# Altium schematic symbol library ISSI SRAM ASynchronous SRAM High Speed Low Power.SchLib: 413 symbols (part 18 of 21)
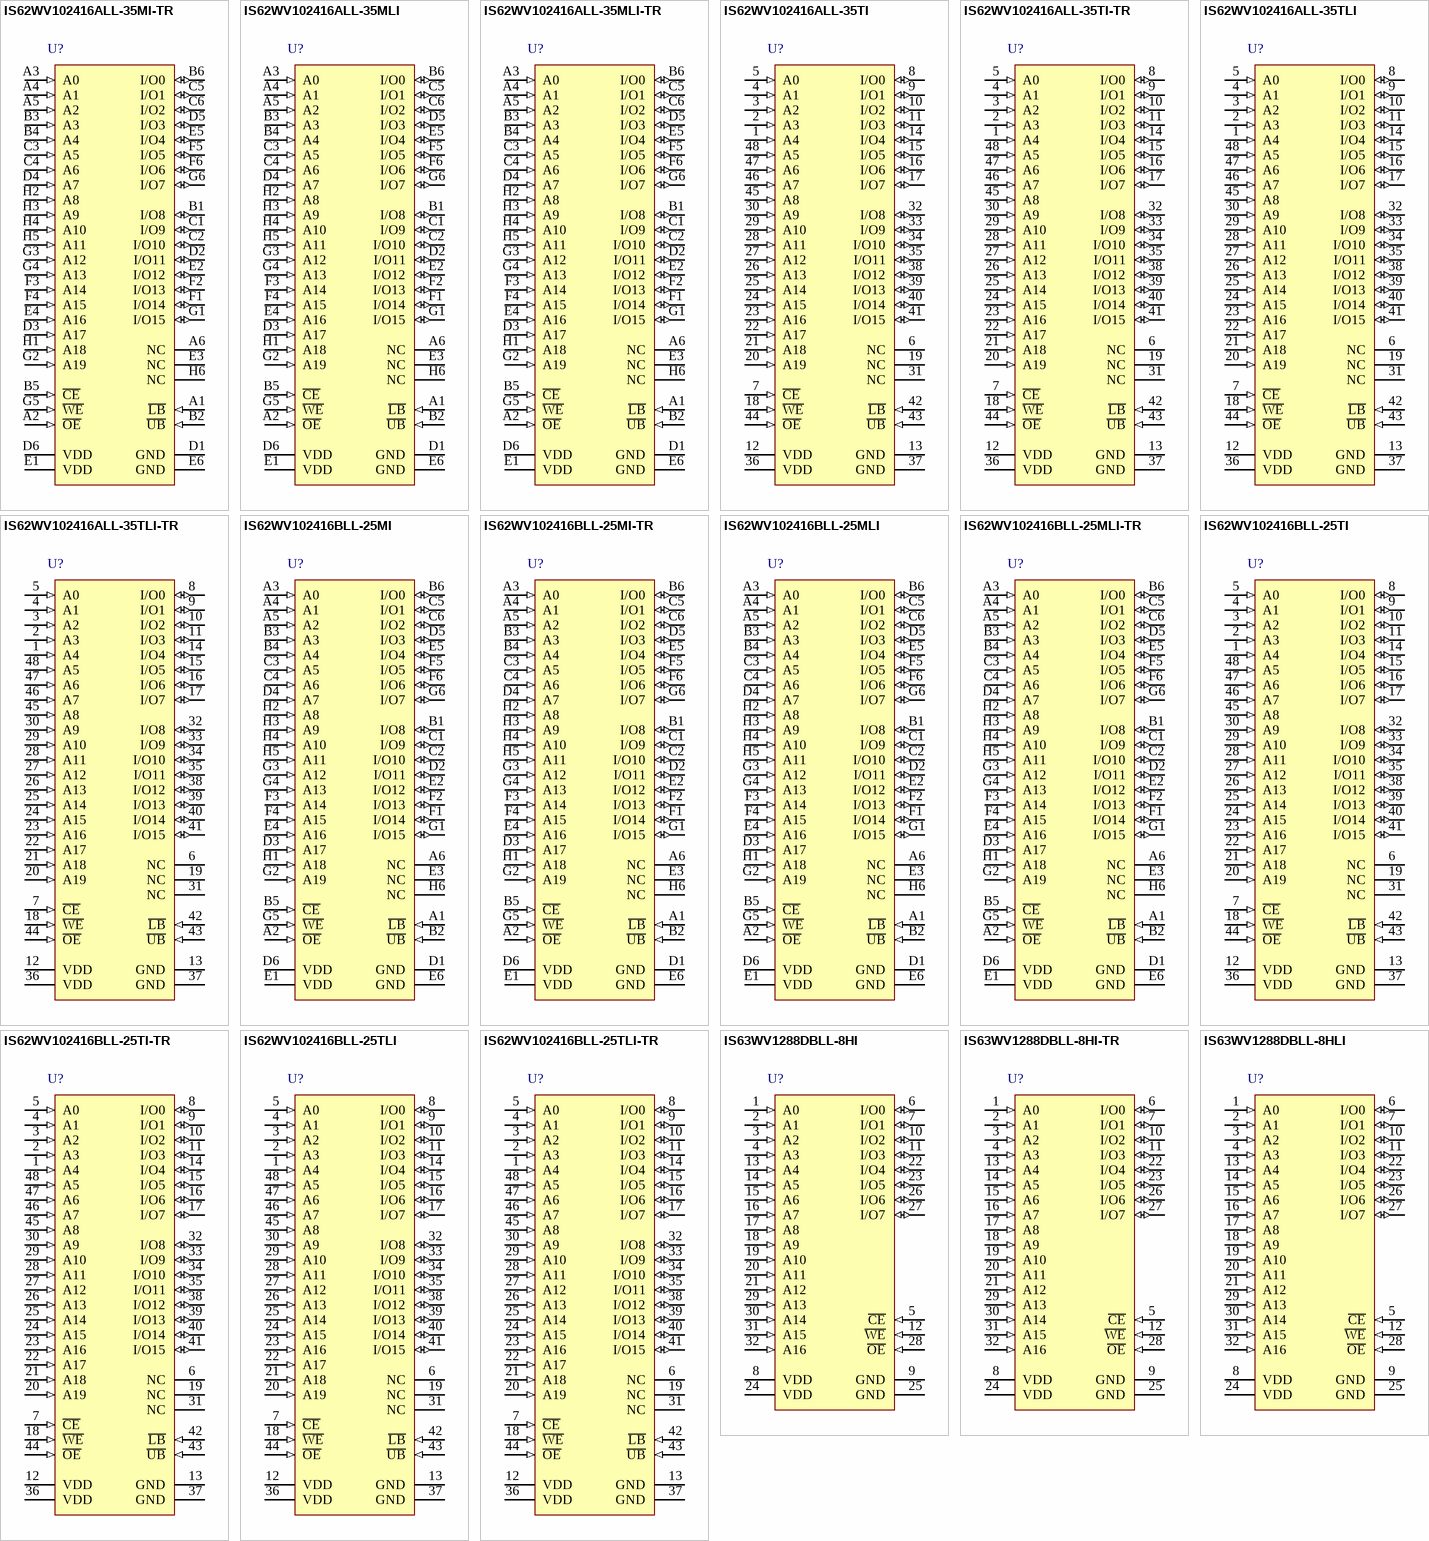
[diagram p45: symbols IS62WV102416ALL-35MI-TR to IS63WV1288DBLL-8HLI]

## IS63WV1288DBLL-8HLI
designator U?
1 M High Speed CMOS SRAM, 128 K x 8, -40 to 85 degC, 32-Pin SOP (TSOP-1-32), Pb-Free; Manufacturer: Integrated Silicon Solution Inc (ISSI); PartNumber: IS63WV1288DBLL-8HLI; Organization: 128K x 8; Packing: Tray / Tube; Speed (ns): 8; DatasheetVersion: Rev. B; PackageVersion: Rev. B, 04/2003; PackageReference: TSOP-1-32; PackageDescription: 32-Pin 8.00 x 13.4 mm TSOP-1, Pitch 0.5 mm; RoHS: Pb-Free; Mounting Technology: Surface Mount; ComponentLink1Description: Manufacturer URL; ComponentLink1URL: http://www.issi.com/US/index.shtml; ComponentLink2Description: Datasheet; ComponentLink2URL: http://www.issi.com/WW/pdf/63-64WV1288DALL-DBLL.pdf; ComponentLink3Description: Package Specification; ComponentLink3URL: http://www.issi.com/WW/pdf/61-64C1024AL.pdf
footprint ISSI-TSOP-1-32-8000x13400DE_N (SOP, 32-Leads, Body 11.9x8.1mm, Pitch 0.5mm, IPC Medium Density)
pins: 1 A0 (in) "Address Input", 2 A1 (in) "Address Input", 3 A2 (in) "Address Input", 4 A3 (in) "Address Input", 5 ~{CE} (in) "Chip Enable Input", 6 I/O0 (io) "Bidirectional Port", 7 I/O1 (io) "Bidirectional Port", 8 VDD (power) "Power", 9 GND (power) "Ground", 10 I/O2 (io) "Bidirectional Port", 11 I/O3 (io) "Bidirectional Port", 12 ~{WE} (in) "Write Enable Input", 13 A4 (in) "Address Input", 14 A5 (in) "Address Input", 15 A6 (in) "Address Input", 16 A7 (in) "Address Input", 17 A8 (in) "Address Input", 18 A9 (in) "Address Input", 19 A10 (in) "Address Input", 20 A11 (in) "Address Input", 21 A12 (in) "Address Input", 22 I/O4 (io) "Bidirectional Port", 23 I/O5 (io) "Bidirectional Port", 24 VDD (power) "Power", 25 GND (power) "Ground", 26 I/O6 (io) "Bidirectional Port", 27 I/O7 (io) "Bidirectional Port", 28 ~{OE} (in) "Output Enable Input", 29 A13 (in) "Address Input", 30 A14 (in) "Address Input", 31 A15 (in) "Address Input", 32 A16 (in) "Address Input"

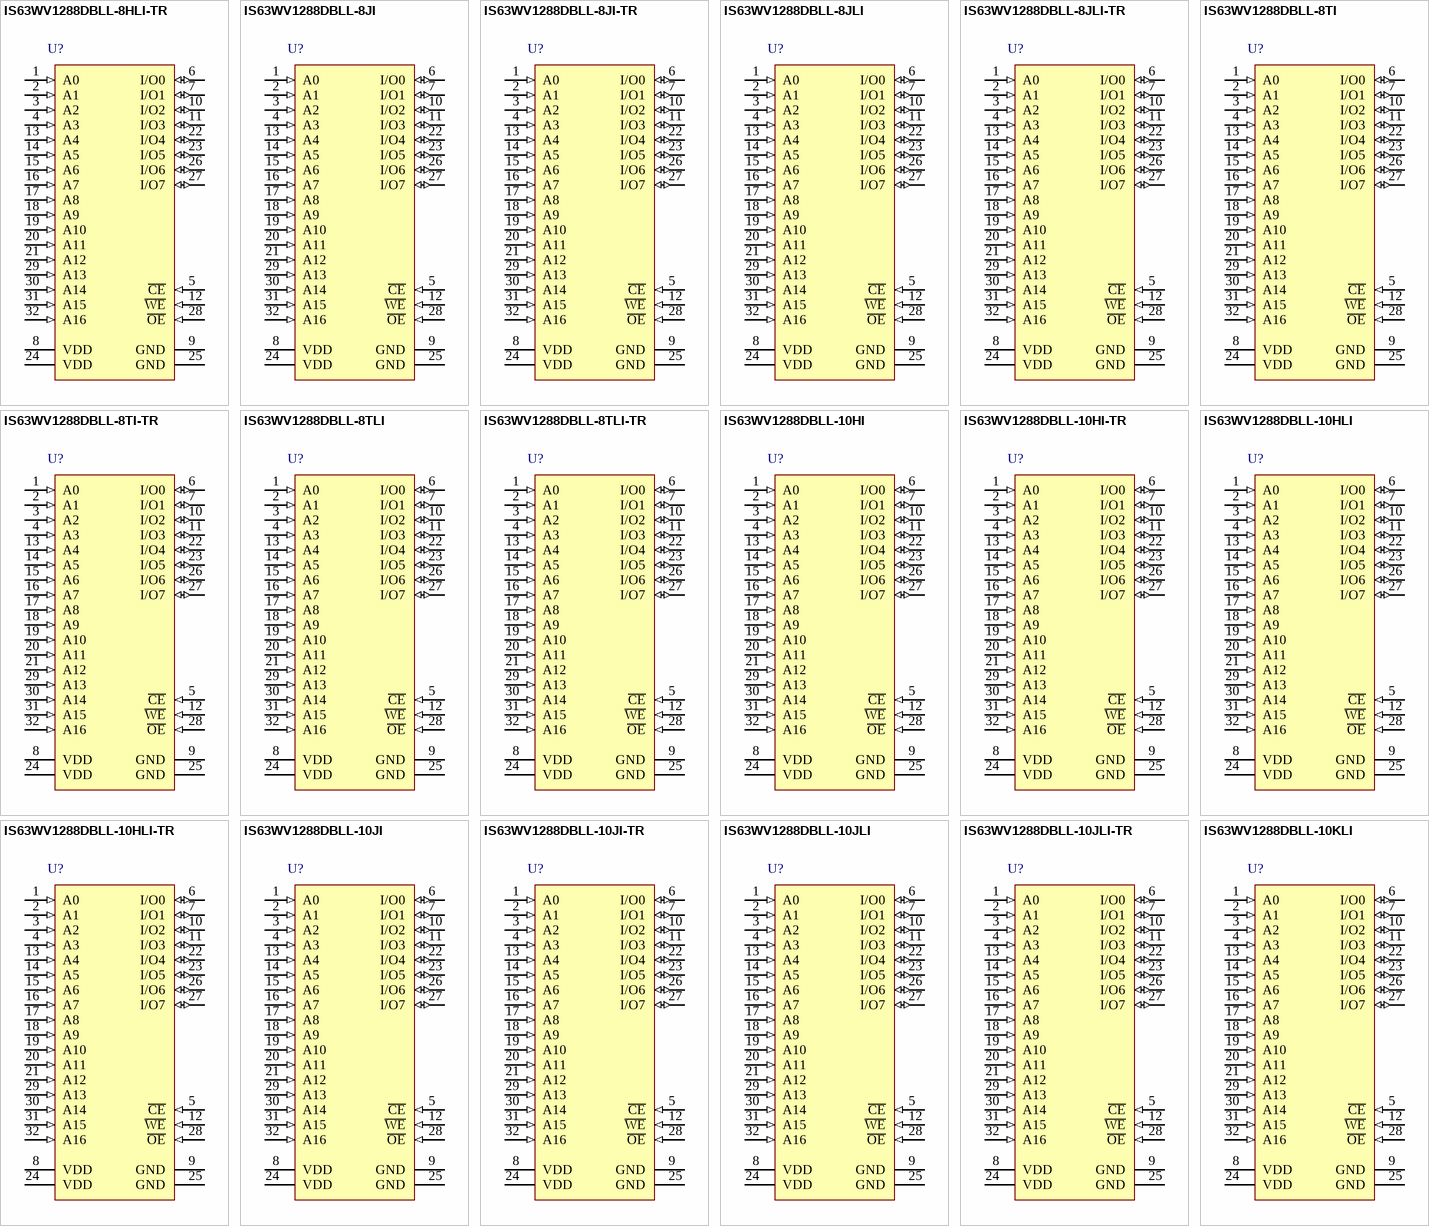
[diagram p24: symbols IS63WV1288DBLL-8HLI-TR to IS63WV1288DBLL-10KLI]

## IS63WV1288DBLL-8HLI-TR
designator U?
1 M High Speed CMOS SRAM, 128 K x 8, -40 to 85 degC, 32-Pin SOP (TSOP-1-32), Pb-Free; Manufacturer: Integrated Silicon Solution Inc (ISSI); PartNumber: IS63WV1288DBLL-8HLI-TR; Organization: 128K x 8; Packing: Tape & Reel; Speed (ns): 8; DatasheetVersion: Rev. B; PackageVersion: Rev. B, 04/2003; PackageReference: TSOP-1-32; PackageDescription: 32-Pin 8.00 x 13.4 mm TSOP-1, Pitch 0.5 mm; RoHS: Pb-Free; Mounting Technology: Surface Mount; ComponentLink1Description: Manufacturer URL; ComponentLink1URL: http://www.issi.com/US/index.shtml; ComponentLink2Description: Datasheet; ComponentLink2URL: http://www.issi.com/WW/pdf/63-64WV1288DALL-DBLL.pdf; ComponentLink3Description: Package Specification; ComponentLink3URL: http://www.issi.com/WW/pdf/61-64C1024AL.pdf
footprint ISSI-TSOP-1-32-8000x13400DE_N (SOP, 32-Leads, Body 11.9x8.1mm, Pitch 0.5mm, IPC Medium Density)
pins: 1 A0 (in) "Address Input", 2 A1 (in) "Address Input", 3 A2 (in) "Address Input", 4 A3 (in) "Address Input", 5 ~{CE} (in) "Chip Enable Input", 6 I/O0 (io) "Bidirectional Port", 7 I/O1 (io) "Bidirectional Port", 8 VDD (power) "Power", 9 GND (power) "Ground", 10 I/O2 (io) "Bidirectional Port", 11 I/O3 (io) "Bidirectional Port", 12 ~{WE} (in) "Write Enable Input", 13 A4 (in) "Address Input", 14 A5 (in) "Address Input", 15 A6 (in) "Address Input", 16 A7 (in) "Address Input", 17 A8 (in) "Address Input", 18 A9 (in) "Address Input", 19 A10 (in) "Address Input", 20 A11 (in) "Address Input", 21 A12 (in) "Address Input", 22 I/O4 (io) "Bidirectional Port", 23 I/O5 (io) "Bidirectional Port", 24 VDD (power) "Power", 25 GND (power) "Ground", 26 I/O6 (io) "Bidirectional Port", 27 I/O7 (io) "Bidirectional Port", 28 ~{OE} (in) "Output Enable Input", 29 A13 (in) "Address Input", 30 A14 (in) "Address Input", 31 A15 (in) "Address Input", 32 A16 (in) "Address Input"

## IS63WV1288DBLL-8JI
designator U?
1 M High Speed CMOS SRAM, 128 K x 8, -40 to 85 degC, 32-Pin SOJ (SOJ-32); Manufacturer: Integrated Silicon Solution Inc (ISSI); PartNumber: IS63WV1288DBLL-8JI; Organization: 128K x 8; Packing: Tray / Tube; Speed (ns): 8; DatasheetVersion: Rev. B; PackageVersion: Rev. C, 08/2009; PackageReference: SOJ-32; PackageDescription: 32-Pin 300 mil SOJ, Body 20.96 x 7.62 mm, Pitch 1.27 mm; Mounting Technology: Surface Mount; ComponentLink1Description: Manufacturer URL; ComponentLink1URL: http://www.issi.com/US/index.shtml; ComponentLink2Description: Datasheet; ComponentLink2URL: http://www.issi.com/WW/pdf/63-64WV1288DALL-DBLL.pdf; ComponentLink3Description: Package Specification; ComponentLink3URL: http://www.issi.com/WW/pdf/61-64C1024AL.pdf
footprint ISSI-SOJ-32_A_N (SOJ, 32-Leads, Body 21.09x7.75mm, Pitch 1.27mm, IPC Medium Density)
pins: 1 A0 (in) "Address Input", 2 A1 (in) "Address Input", 3 A2 (in) "Address Input", 4 A3 (in) "Address Input", 5 ~{CE} (in) "Chip Enable Input", 6 I/O0 (io) "Bidirectional Port", 7 I/O1 (io) "Bidirectional Port", 8 VDD (power) "Power", 9 GND (power) "Ground", 10 I/O2 (io) "Bidirectional Port", 11 I/O3 (io) "Bidirectional Port", 12 ~{WE} (in) "Write Enable Input", 13 A4 (in) "Address Input", 14 A5 (in) "Address Input", 15 A6 (in) "Address Input", 16 A7 (in) "Address Input", 17 A8 (in) "Address Input", 18 A9 (in) "Address Input", 19 A10 (in) "Address Input", 20 A11 (in) "Address Input", 21 A12 (in) "Address Input", 22 I/O4 (io) "Bidirectional Port", 23 I/O5 (io) "Bidirectional Port", 24 VDD (power) "Power", 25 GND (power) "Ground", 26 I/O6 (io) "Bidirectional Port", 27 I/O7 (io) "Bidirectional Port", 28 ~{OE} (in) "Output Enable Input", 29 A13 (in) "Address Input", 30 A14 (in) "Address Input", 31 A15 (in) "Address Input", 32 A16 (in) "Address Input"

## IS63WV1288DBLL-8JI-TR
designator U?
1 M High Speed CMOS SRAM, 128 K x 8, -40 to 85 degC, 32-Pin SOJ (SOJ-32_A); Manufacturer: Integrated Silicon Solution Inc (ISSI); PartNumber: IS63WV1288DBLL-8JI-TR; Organization: 128K x 8; Packing: Tape & Reel; Speed (ns): 8; DatasheetVersion: Rev. B; PackageVersion: Rev. C, 08/2009; PackageReference: SOJ-32; PackageDescription: 32-Pin 300 mil SOJ, Body 20.96 x 7.62 mm, Pitch 1.27 mm; Mounting Technology: Surface Mount; ComponentLink1Description: Manufacturer URL; ComponentLink1URL: http://www.issi.com/US/index.shtml; ComponentLink2Description: Datasheet; ComponentLink2URL: http://www.issi.com/WW/pdf/63-64WV1288DALL-DBLL.pdf; ComponentLink3Description: Package Specification; ComponentLink3URL: http://www.issi.com/WW/pdf/61-64C1024AL.pdf
footprint ISSI-SOJ-32_A_N (SOJ, 32-Leads, Body 21.09x7.75mm, Pitch 1.27mm, IPC Medium Density)
pins: 1 A0 (in) "Address Input", 2 A1 (in) "Address Input", 3 A2 (in) "Address Input", 4 A3 (in) "Address Input", 5 ~{CE} (in) "Chip Enable Input", 6 I/O0 (io) "Bidirectional Port", 7 I/O1 (io) "Bidirectional Port", 8 VDD (power) "Power", 9 GND (power) "Ground", 10 I/O2 (io) "Bidirectional Port", 11 I/O3 (io) "Bidirectional Port", 12 ~{WE} (in) "Write Enable Input", 13 A4 (in) "Address Input", 14 A5 (in) "Address Input", 15 A6 (in) "Address Input", 16 A7 (in) "Address Input", 17 A8 (in) "Address Input", 18 A9 (in) "Address Input", 19 A10 (in) "Address Input", 20 A11 (in) "Address Input", 21 A12 (in) "Address Input", 22 I/O4 (io) "Bidirectional Port", 23 I/O5 (io) "Bidirectional Port", 24 VDD (power) "Power", 25 GND (power) "Ground", 26 I/O6 (io) "Bidirectional Port", 27 I/O7 (io) "Bidirectional Port", 28 ~{OE} (in) "Output Enable Input", 29 A13 (in) "Address Input", 30 A14 (in) "Address Input", 31 A15 (in) "Address Input", 32 A16 (in) "Address Input"

## IS63WV1288DBLL-8JLI
designator U?
1 M High Speed CMOS SRAM, 128 K x 8, -40 to 85 degC, 32-Pin SOJ (SOJ-32), Pb-Free; Manufacturer: Integrated Silicon Solution Inc (ISSI); PartNumber: IS63WV1288DBLL-8JLI; Organization: 128K x 8; Packing: Tray / Tube; Speed (ns): 8; DatasheetVersion: Rev. B; PackageVersion: Rev. C, 08/2009; PackageReference: SOJ-32; PackageDescription: 32-Pin 300 mil SOJ, Body 20.96 x 7.62 mm, Pitch 1.27 mm; RoHS: Pb-Free; Mounting Technology: Surface Mount; ComponentLink1Description: Manufacturer URL; ComponentLink1URL: http://www.issi.com/US/index.shtml; ComponentLink2Description: Datasheet; ComponentLink2URL: http://www.issi.com/WW/pdf/63-64WV1288DALL-DBLL.pdf; ComponentLink3Description: Package Specification; ComponentLink3URL: http://www.issi.com/WW/pdf/61-64C1024AL.pdf
footprint ISSI-SOJ-32_A_N (SOJ, 32-Leads, Body 21.09x7.75mm, Pitch 1.27mm, IPC Medium Density)
pins: 1 A0 (in) "Address Input", 2 A1 (in) "Address Input", 3 A2 (in) "Address Input", 4 A3 (in) "Address Input", 5 ~{CE} (in) "Chip Enable Input", 6 I/O0 (io) "Bidirectional Port", 7 I/O1 (io) "Bidirectional Port", 8 VDD (power) "Power", 9 GND (power) "Ground", 10 I/O2 (io) "Bidirectional Port", 11 I/O3 (io) "Bidirectional Port", 12 ~{WE} (in) "Write Enable Input", 13 A4 (in) "Address Input", 14 A5 (in) "Address Input", 15 A6 (in) "Address Input", 16 A7 (in) "Address Input", 17 A8 (in) "Address Input", 18 A9 (in) "Address Input", 19 A10 (in) "Address Input", 20 A11 (in) "Address Input", 21 A12 (in) "Address Input", 22 I/O4 (io) "Bidirectional Port", 23 I/O5 (io) "Bidirectional Port", 24 VDD (power) "Power", 25 GND (power) "Ground", 26 I/O6 (io) "Bidirectional Port", 27 I/O7 (io) "Bidirectional Port", 28 ~{OE} (in) "Output Enable Input", 29 A13 (in) "Address Input", 30 A14 (in) "Address Input", 31 A15 (in) "Address Input", 32 A16 (in) "Address Input"

## IS63WV1288DBLL-8JLI-TR
designator U?
1 M High Speed CMOS SRAM, 128 K x 8, -40 to 85 degC, 32-Pin SOJ (SOJ-32_A), Pb-Free; Manufacturer: Integrated Silicon Solution Inc (ISSI); PartNumber: IS63WV1288DBLL-8JLI-TR; Organization: 128K x 8; Packing: Tape & Reel; Speed (ns): 8; DatasheetVersion: Rev. B; PackageVersion: Rev. C, 08/2009; PackageReference: SOJ-32; PackageDescription: 32-Pin 300 mil SOJ, Body 20.96 x 7.62 mm, Pitch 1.27 mm; RoHS: Pb-Free; Mounting Technology: Surface Mount; ComponentLink1Description: Manufacturer URL; ComponentLink1URL: http://www.issi.com/US/index.shtml; ComponentLink2Description: Datasheet; ComponentLink2URL: http://www.issi.com/WW/pdf/63-64WV1288DALL-DBLL.pdf; ComponentLink3Description: Package Specification; ComponentLink3URL: http://www.issi.com/WW/pdf/61-64C1024AL.pdf
footprint ISSI-SOJ-32_A_N (SOJ, 32-Leads, Body 21.09x7.75mm, Pitch 1.27mm, IPC Medium Density)
pins: 1 A0 (in) "Address Input", 2 A1 (in) "Address Input", 3 A2 (in) "Address Input", 4 A3 (in) "Address Input", 5 ~{CE} (in) "Chip Enable Input", 6 I/O0 (io) "Bidirectional Port", 7 I/O1 (io) "Bidirectional Port", 8 VDD (power) "Power", 9 GND (power) "Ground", 10 I/O2 (io) "Bidirectional Port", 11 I/O3 (io) "Bidirectional Port", 12 ~{WE} (in) "Write Enable Input", 13 A4 (in) "Address Input", 14 A5 (in) "Address Input", 15 A6 (in) "Address Input", 16 A7 (in) "Address Input", 17 A8 (in) "Address Input", 18 A9 (in) "Address Input", 19 A10 (in) "Address Input", 20 A11 (in) "Address Input", 21 A12 (in) "Address Input", 22 I/O4 (io) "Bidirectional Port", 23 I/O5 (io) "Bidirectional Port", 24 VDD (power) "Power", 25 GND (power) "Ground", 26 I/O6 (io) "Bidirectional Port", 27 I/O7 (io) "Bidirectional Port", 28 ~{OE} (in) "Output Enable Input", 29 A13 (in) "Address Input", 30 A14 (in) "Address Input", 31 A15 (in) "Address Input", 32 A16 (in) "Address Input"

## IS63WV1288DBLL-8TI
designator U?
1 M High Speed CMOS SRAM, 128 K x 8, -40 to 85 degC, 32-Pin SOP (TSOP-2-32); Manufacturer: Integrated Silicon Solution Inc (ISSI); PartNumber: IS63WV1288DBLL-8TI; Organization: 128K x 8; Packing: Tray / Tube; Speed (ns): 8; DatasheetVersion: Rev. B; PackageVersion: Rev. E, 06/2009; PackageReference: TSOP-2-32; PackageDescription: 32-Pin 400 mil TSOP-2, Body 20.95 x 10.16 mm, Pitch 1.27 mm; Mounting Technology: Surface Mount; ComponentLink1Description: Manufacturer URL; ComponentLink1URL: http://www.issi.com/US/index.shtml; ComponentLink2Description: Datasheet; ComponentLink2URL: http://www.issi.com/WW/pdf/63-64WV1288DALL-DBLL.pdf; ComponentLink3Description: Package Specification; ComponentLink3URL: http://www.issi.com/WW/pdf/61-64WV1288EEBLL.pdf
footprint ISSI-TSOP-2-32_N (SOP, 32-Leads, Body 21.1x10.3mm, Pitch 1.27mm, IPC Medium Density)
pins: 1 A0 (in) "Address Inputs", 2 A1 (in) "Address Inputs", 3 A2 (in) "Address Inputs", 4 A3 (in) "Address Inputs", 5 ~{CE} (in) "Chip Enable Input", 6 I/O0 (io) "Bidirectional Ports", 7 I/O1 (io) "Bidirectional Ports", 8 VDD (power) "Power", 9 GND (power) "Ground", 10 I/O2 (io) "Bidirectional Ports", 11 I/O3 (io) "Bidirectional Ports", 12 ~{WE} (in) "Write Enable Input", 13 A4 (in) "Address Inputs", 14 A5 (in) "Address Inputs", 15 A6 (in) "Address Inputs", 16 A7 (in) "Address Inputs", 17 A8 (in) "Address Inputs", 18 A9 (in) "Address Inputs", 19 A10 (in) "Address Inputs", 20 A11 (in) "Address Inputs", 21 A12 (in) "Address Inputs", 22 I/O4 (io) "Bidirectional Ports", 23 I/O5 (io) "Bidirectional Ports", 24 VDD (power) "Power", 25 GND (power) "Ground", 26 I/O6 (io) "Bidirectional Ports", 27 I/O7 (io) "Bidirectional Ports", 28 ~{OE} (in) "Output Enable Input", 29 A13 (in) "Address Inputs", 30 A14 (in) "Address Inputs", 31 A15 (in) "Address Inputs", 32 A16 (in) "Address Inputs"

## IS63WV1288DBLL-8TI-TR
designator U?
1 M High Speed CMOS SRAM, 128 K x 8, -40 to 85 degC, 32-Pin SOP (TSOP-2-32); Manufacturer: Integrated Silicon Solution Inc (ISSI); PartNumber: IS63WV1288DBLL-8TI-TR; Organization: 128K x 8; Packing: Tape & Reel; Speed (ns): 8; DatasheetVersion: Rev. B; PackageVersion: Rev. E, 06/2009; PackageReference: TSOP-2-32; PackageDescription: 32-Pin 400 mil TSOP-2, Body 20.95 x 10.16 mm, Pitch 1.27 mm; Mounting Technology: Surface Mount; ComponentLink1Description: Manufacturer URL; ComponentLink1URL: http://www.issi.com/US/index.shtml; ComponentLink2Description: Datasheet; ComponentLink2URL: http://www.issi.com/WW/pdf/63-64WV1288DALL-DBLL.pdf; ComponentLink3Description: Package Specification; ComponentLink3URL: http://www.issi.com/WW/pdf/61-64WV1288EEBLL.pdf
footprint ISSI-TSOP-2-32_N (SOP, 32-Leads, Body 21.1x10.3mm, Pitch 1.27mm, IPC Medium Density)
pins: 1 A0 (in) "Address Inputs", 2 A1 (in) "Address Inputs", 3 A2 (in) "Address Inputs", 4 A3 (in) "Address Inputs", 5 ~{CE} (in) "Chip Enable Input", 6 I/O0 (io) "Bidirectional Ports", 7 I/O1 (io) "Bidirectional Ports", 8 VDD (power) "Power", 9 GND (power) "Ground", 10 I/O2 (io) "Bidirectional Ports", 11 I/O3 (io) "Bidirectional Ports", 12 ~{WE} (in) "Write Enable Input", 13 A4 (in) "Address Inputs", 14 A5 (in) "Address Inputs", 15 A6 (in) "Address Inputs", 16 A7 (in) "Address Inputs", 17 A8 (in) "Address Inputs", 18 A9 (in) "Address Inputs", 19 A10 (in) "Address Inputs", 20 A11 (in) "Address Inputs", 21 A12 (in) "Address Inputs", 22 I/O4 (io) "Bidirectional Ports", 23 I/O5 (io) "Bidirectional Ports", 24 VDD (power) "Power", 25 GND (power) "Ground", 26 I/O6 (io) "Bidirectional Ports", 27 I/O7 (io) "Bidirectional Ports", 28 ~{OE} (in) "Output Enable Input", 29 A13 (in) "Address Inputs", 30 A14 (in) "Address Inputs", 31 A15 (in) "Address Inputs", 32 A16 (in) "Address Inputs"

## IS63WV1288DBLL-8TLI
designator U?
1 M High Speed CMOS SRAM, 128 K x 8, -40 to 85 degC, 32-Pin SOP (TSOP-2-32), Pb-Free; Manufacturer: Integrated Silicon Solution Inc (ISSI); PartNumber: IS63WV1288DBLL-8TLI; Organization: 128K x 8; Packing: Tray / Tube; Speed (ns): 8; DatasheetVersion: Rev. B; PackageVersion: Rev. E, 06/2009; PackageReference: TSOP-2-32; PackageDescription: 32-Pin 400 mil TSOP-2, Body 20.95 x 10.16 mm, Pitch 1.27 mm; RoHS: Pb-Free; Mounting Technology: Surface Mount; ComponentLink1Description: Manufacturer URL; ComponentLink1URL: http://www.issi.com/US/index.shtml; ComponentLink2Description: Datasheet; ComponentLink2URL: http://www.issi.com/WW/pdf/63-64WV1288DALL-DBLL.pdf; ComponentLink3Description: Package Specification; ComponentLink3URL: http://www.issi.com/WW/pdf/61-64WV1288EEBLL.pdf
footprint ISSI-TSOP-2-32_N (SOP, 32-Leads, Body 21.1x10.3mm, Pitch 1.27mm, IPC Medium Density)
pins: 1 A0 (in) "Address Inputs", 2 A1 (in) "Address Inputs", 3 A2 (in) "Address Inputs", 4 A3 (in) "Address Inputs", 5 ~{CE} (in) "Chip Enable Input", 6 I/O0 (io) "Bidirectional Ports", 7 I/O1 (io) "Bidirectional Ports", 8 VDD (power) "Power", 9 GND (power) "Ground", 10 I/O2 (io) "Bidirectional Ports", 11 I/O3 (io) "Bidirectional Ports", 12 ~{WE} (in) "Write Enable Input", 13 A4 (in) "Address Inputs", 14 A5 (in) "Address Inputs", 15 A6 (in) "Address Inputs", 16 A7 (in) "Address Inputs", 17 A8 (in) "Address Inputs", 18 A9 (in) "Address Inputs", 19 A10 (in) "Address Inputs", 20 A11 (in) "Address Inputs", 21 A12 (in) "Address Inputs", 22 I/O4 (io) "Bidirectional Ports", 23 I/O5 (io) "Bidirectional Ports", 24 VDD (power) "Power", 25 GND (power) "Ground", 26 I/O6 (io) "Bidirectional Ports", 27 I/O7 (io) "Bidirectional Ports", 28 ~{OE} (in) "Output Enable Input", 29 A13 (in) "Address Inputs", 30 A14 (in) "Address Inputs", 31 A15 (in) "Address Inputs", 32 A16 (in) "Address Inputs"

## IS63WV1288DBLL-8TLI-TR
designator U?
1 M High Speed CMOS SRAM, 128 K x 8, -40 to 85 degC, 32-Pin SOP (TSOP-2-32), Pb-Free; Manufacturer: Integrated Silicon Solution Inc (ISSI); PartNumber: IS63WV1288DBLL-8TLI-TR; Organization: 128K x 8; Packing: Tape & Reel; Speed (ns): 8; DatasheetVersion: Rev. B; PackageVersion: Rev. E, 06/2009; PackageReference: TSOP-2-32; PackageDescription: 32-Pin 400 mil TSOP-2, Body 20.95 x 10.16 mm, Pitch 1.27 mm; RoHS: Pb-Free; Mounting Technology: Surface Mount; ComponentLink1Description: Manufacturer URL; ComponentLink1URL: http://www.issi.com/US/index.shtml; ComponentLink2Description: Datasheet; ComponentLink2URL: http://www.issi.com/WW/pdf/63-64WV1288DALL-DBLL.pdf; ComponentLink3Description: Package Specification; ComponentLink3URL: http://www.issi.com/WW/pdf/61-64WV1288EEBLL.pdf
footprint ISSI-TSOP-2-32_N (SOP, 32-Leads, Body 21.1x10.3mm, Pitch 1.27mm, IPC Medium Density)
pins: 1 A0 (in) "Address Inputs", 2 A1 (in) "Address Inputs", 3 A2 (in) "Address Inputs", 4 A3 (in) "Address Inputs", 5 ~{CE} (in) "Chip Enable Input", 6 I/O0 (io) "Bidirectional Ports", 7 I/O1 (io) "Bidirectional Ports", 8 VDD (power) "Power", 9 GND (power) "Ground", 10 I/O2 (io) "Bidirectional Ports", 11 I/O3 (io) "Bidirectional Ports", 12 ~{WE} (in) "Write Enable Input", 13 A4 (in) "Address Inputs", 14 A5 (in) "Address Inputs", 15 A6 (in) "Address Inputs", 16 A7 (in) "Address Inputs", 17 A8 (in) "Address Inputs", 18 A9 (in) "Address Inputs", 19 A10 (in) "Address Inputs", 20 A11 (in) "Address Inputs", 21 A12 (in) "Address Inputs", 22 I/O4 (io) "Bidirectional Ports", 23 I/O5 (io) "Bidirectional Ports", 24 VDD (power) "Power", 25 GND (power) "Ground", 26 I/O6 (io) "Bidirectional Ports", 27 I/O7 (io) "Bidirectional Ports", 28 ~{OE} (in) "Output Enable Input", 29 A13 (in) "Address Inputs", 30 A14 (in) "Address Inputs", 31 A15 (in) "Address Inputs", 32 A16 (in) "Address Inputs"

## IS63WV1288DBLL-10HI
designator U?
1 M High Speed CMOS SRAM, 128 K x 8, -40 to 85 degC, 32-Pin SOP (TSOP-1-32); Manufacturer: Integrated Silicon Solution Inc (ISSI); PartNumber: IS63WV1288DBLL-10HI; Organization: 128K x 8; Packing: Tray / Tube; Speed (ns): 10; DatasheetVersion: Rev. B; PackageVersion: Rev. B, 04/2003; PackageReference: TSOP-1-32; PackageDescription: 32-Pin 8.00 x 13.4 mm TSOP-1, Pitch 0.5 mm; Mounting Technology: Surface Mount; ComponentLink1Description: Manufacturer URL; ComponentLink1URL: http://www.issi.com/US/index.shtml; ComponentLink2Description: Datasheet; ComponentLink2URL: http://www.issi.com/WW/pdf/63-64WV1288DALL-DBLL.pdf; ComponentLink3Description: Package Specification; ComponentLink3URL: http://www.issi.com/WW/pdf/61-64C1024AL.pdf
footprint ISSI-TSOP-1-32-8000x13400DE_N (SOP, 32-Leads, Body 11.9x8.1mm, Pitch 0.5mm, IPC Medium Density)
pins: 1 A0 (in) "Address Input", 2 A1 (in) "Address Input", 3 A2 (in) "Address Input", 4 A3 (in) "Address Input", 5 ~{CE} (in) "Chip Enable Input", 6 I/O0 (io) "Bidirectional Port", 7 I/O1 (io) "Bidirectional Port", 8 VDD (power) "Power", 9 GND (power) "Ground", 10 I/O2 (io) "Bidirectional Port", 11 I/O3 (io) "Bidirectional Port", 12 ~{WE} (in) "Write Enable Input", 13 A4 (in) "Address Input", 14 A5 (in) "Address Input", 15 A6 (in) "Address Input", 16 A7 (in) "Address Input", 17 A8 (in) "Address Input", 18 A9 (in) "Address Input", 19 A10 (in) "Address Input", 20 A11 (in) "Address Input", 21 A12 (in) "Address Input", 22 I/O4 (io) "Bidirectional Port", 23 I/O5 (io) "Bidirectional Port", 24 VDD (power) "Power", 25 GND (power) "Ground", 26 I/O6 (io) "Bidirectional Port", 27 I/O7 (io) "Bidirectional Port", 28 ~{OE} (in) "Output Enable Input", 29 A13 (in) "Address Input", 30 A14 (in) "Address Input", 31 A15 (in) "Address Input", 32 A16 (in) "Address Input"

## IS63WV1288DBLL-10HI-TR
designator U?
1 M High Speed CMOS SRAM, 128 K x 8, -40 to 85 degC, 32-Pin SOP (TSOP-1-32); Manufacturer: Integrated Silicon Solution Inc (ISSI); PartNumber: IS63WV1288DBLL-10HI-TR; Organization: 128K x 8; Packing: Tape & Reel; Speed (ns): 10; DatasheetVersion: Rev. B; PackageVersion: Rev. B, 04/2003; PackageReference: TSOP-1-32; PackageDescription: 32-Pin 8.00 x 13.4 mm TSOP-1, Pitch 0.5 mm; Mounting Technology: Surface Mount; ComponentLink1Description: Manufacturer URL; ComponentLink1URL: http://www.issi.com/US/index.shtml; ComponentLink2Description: Datasheet; ComponentLink2URL: http://www.issi.com/WW/pdf/63-64WV1288DALL-DBLL.pdf; ComponentLink3Description: Package Specification; ComponentLink3URL: http://www.issi.com/WW/pdf/61-64C1024AL.pdf
footprint ISSI-TSOP-1-32-8000x13400DE_N (SOP, 32-Leads, Body 11.9x8.1mm, Pitch 0.5mm, IPC Medium Density)
pins: 1 A0 (in) "Address Input", 2 A1 (in) "Address Input", 3 A2 (in) "Address Input", 4 A3 (in) "Address Input", 5 ~{CE} (in) "Chip Enable Input", 6 I/O0 (io) "Bidirectional Port", 7 I/O1 (io) "Bidirectional Port", 8 VDD (power) "Power", 9 GND (power) "Ground", 10 I/O2 (io) "Bidirectional Port", 11 I/O3 (io) "Bidirectional Port", 12 ~{WE} (in) "Write Enable Input", 13 A4 (in) "Address Input", 14 A5 (in) "Address Input", 15 A6 (in) "Address Input", 16 A7 (in) "Address Input", 17 A8 (in) "Address Input", 18 A9 (in) "Address Input", 19 A10 (in) "Address Input", 20 A11 (in) "Address Input", 21 A12 (in) "Address Input", 22 I/O4 (io) "Bidirectional Port", 23 I/O5 (io) "Bidirectional Port", 24 VDD (power) "Power", 25 GND (power) "Ground", 26 I/O6 (io) "Bidirectional Port", 27 I/O7 (io) "Bidirectional Port", 28 ~{OE} (in) "Output Enable Input", 29 A13 (in) "Address Input", 30 A14 (in) "Address Input", 31 A15 (in) "Address Input", 32 A16 (in) "Address Input"

## IS63WV1288DBLL-10HLI
designator U?
1 M High Speed CMOS SRAM, 128 K x 8, -40 to 85 degC, 32-Pin SOP (TSOP-1-32), Pb-Free; Manufacturer: Integrated Silicon Solution Inc (ISSI); PartNumber: IS63WV1288DBLL-10HLI; Organization: 128K x 8; Packing: Tray / Tube; Speed (ns): 10; DatasheetVersion: Rev. B; PackageVersion: Rev. B, 04/2003; PackageReference: TSOP-1-32; PackageDescription: 32-Pin 8.00 x 13.4 mm TSOP-1, Pitch 0.5 mm; Supplier 1: Newark; Supplier Part Number 1: 01T2023; Supplier 2: Mouser; Supplier Part Number 2: 870-63WV1288DBLL10HL; RoHS: Pb-Free; Mounting Technology: Surface Mount; ComponentLink1Description: Manufacturer URL; ComponentLink1URL: http://www.issi.com/US/index.shtml; ComponentLink2Description: Datasheet; ComponentLink2URL: http://www.issi.com/WW/pdf/63-64WV1288DALL-DBLL.pdf; ComponentLink3Description: Package Specification; ComponentLink3URL: http://www.issi.com/WW/pdf/61-64C1024AL.pdf
footprint ISSI-TSOP-1-32-8000x13400DE_N (SOP, 32-Leads, Body 11.9x8.1mm, Pitch 0.5mm, IPC Medium Density)
pins: 1 A0 (in) "Address Input", 2 A1 (in) "Address Input", 3 A2 (in) "Address Input", 4 A3 (in) "Address Input", 5 ~{CE} (in) "Chip Enable Input", 6 I/O0 (io) "Bidirectional Port", 7 I/O1 (io) "Bidirectional Port", 8 VDD (power) "Power", 9 GND (power) "Ground", 10 I/O2 (io) "Bidirectional Port", 11 I/O3 (io) "Bidirectional Port", 12 ~{WE} (in) "Write Enable Input", 13 A4 (in) "Address Input", 14 A5 (in) "Address Input", 15 A6 (in) "Address Input", 16 A7 (in) "Address Input", 17 A8 (in) "Address Input", 18 A9 (in) "Address Input", 19 A10 (in) "Address Input", 20 A11 (in) "Address Input", 21 A12 (in) "Address Input", 22 I/O4 (io) "Bidirectional Port", 23 I/O5 (io) "Bidirectional Port", 24 VDD (power) "Power", 25 GND (power) "Ground", 26 I/O6 (io) "Bidirectional Port", 27 I/O7 (io) "Bidirectional Port", 28 ~{OE} (in) "Output Enable Input", 29 A13 (in) "Address Input", 30 A14 (in) "Address Input", 31 A15 (in) "Address Input", 32 A16 (in) "Address Input"

## IS63WV1288DBLL-10HLI-TR
designator U?
1 M High Speed CMOS SRAM, 128 K x 8, -40 to 85 degC, 32-Pin SOP (TSOP-1-32), Pb-Free; Manufacturer: Integrated Silicon Solution Inc (ISSI); PartNumber: IS63WV1288DBLL-10HLI-TR; Organization: 128K x 8; Packing: Tape & Reel; Speed (ns): 10; DatasheetVersion: Rev. B; PackageVersion: Rev. B, 04/2003; PackageReference: TSOP-1-32; PackageDescription: 32-Pin 8.00 x 13.4 mm TSOP-1, Pitch 0.5 mm; Supplier 1: Mouser; Supplier Part Number 1: 870-63WV1288DBL10HLT; RoHS: Pb-Free; Mounting Technology: Surface Mount; ComponentLink1Description: Manufacturer URL; ComponentLink1URL: http://www.issi.com/US/index.shtml; ComponentLink2Description: Datasheet; ComponentLink2URL: http://www.issi.com/WW/pdf/63-64WV1288DALL-DBLL.pdf; ComponentLink3Description: Package Specification; ComponentLink3URL: http://www.issi.com/WW/pdf/61-64C1024AL.pdf
footprint ISSI-TSOP-1-32-8000x13400DE_N (SOP, 32-Leads, Body 11.9x8.1mm, Pitch 0.5mm, IPC Medium Density)
pins: 1 A0 (in) "Address Input", 2 A1 (in) "Address Input", 3 A2 (in) "Address Input", 4 A3 (in) "Address Input", 5 ~{CE} (in) "Chip Enable Input", 6 I/O0 (io) "Bidirectional Port", 7 I/O1 (io) "Bidirectional Port", 8 VDD (power) "Power", 9 GND (power) "Ground", 10 I/O2 (io) "Bidirectional Port", 11 I/O3 (io) "Bidirectional Port", 12 ~{WE} (in) "Write Enable Input", 13 A4 (in) "Address Input", 14 A5 (in) "Address Input", 15 A6 (in) "Address Input", 16 A7 (in) "Address Input", 17 A8 (in) "Address Input", 18 A9 (in) "Address Input", 19 A10 (in) "Address Input", 20 A11 (in) "Address Input", 21 A12 (in) "Address Input", 22 I/O4 (io) "Bidirectional Port", 23 I/O5 (io) "Bidirectional Port", 24 VDD (power) "Power", 25 GND (power) "Ground", 26 I/O6 (io) "Bidirectional Port", 27 I/O7 (io) "Bidirectional Port", 28 ~{OE} (in) "Output Enable Input", 29 A13 (in) "Address Input", 30 A14 (in) "Address Input", 31 A15 (in) "Address Input", 32 A16 (in) "Address Input"

## IS63WV1288DBLL-10JI
designator U?
1 M High Speed CMOS SRAM, 128 K x 8, -40 to 85 degC, 32-Pin SOJ (SOJ-32_A); Manufacturer: Integrated Silicon Solution Inc (ISSI); PartNumber: IS63WV1288DBLL-10JI; Organization: 128K x 8; Packing: Tray / Tube; Speed (ns): 10; DatasheetVersion: Rev. B; PackageVersion: Rev. C, 08/2009; PackageReference: SOJ-32; PackageDescription: 32-Pin 300 mil SOJ, Body 20.96 x 7.62 mm, Pitch 1.27 mm; Mounting Technology: Surface Mount; ComponentLink1Description: Manufacturer URL; ComponentLink1URL: http://www.issi.com/US/index.shtml; ComponentLink2Description: Datasheet; ComponentLink2URL: http://www.issi.com/WW/pdf/63-64WV1288DALL-DBLL.pdf; ComponentLink3Description: Package Specification; ComponentLink3URL: http://www.issi.com/WW/pdf/61-64C1024AL.pdf
footprint ISSI-SOJ-32_A_N (SOJ, 32-Leads, Body 21.09x7.75mm, Pitch 1.27mm, IPC Medium Density)
pins: 1 A0 (in) "Address Input", 2 A1 (in) "Address Input", 3 A2 (in) "Address Input", 4 A3 (in) "Address Input", 5 ~{CE} (in) "Chip Enable Input", 6 I/O0 (io) "Bidirectional Port", 7 I/O1 (io) "Bidirectional Port", 8 VDD (power) "Power", 9 GND (power) "Ground", 10 I/O2 (io) "Bidirectional Port", 11 I/O3 (io) "Bidirectional Port", 12 ~{WE} (in) "Write Enable Input", 13 A4 (in) "Address Input", 14 A5 (in) "Address Input", 15 A6 (in) "Address Input", 16 A7 (in) "Address Input", 17 A8 (in) "Address Input", 18 A9 (in) "Address Input", 19 A10 (in) "Address Input", 20 A11 (in) "Address Input", 21 A12 (in) "Address Input", 22 I/O4 (io) "Bidirectional Port", 23 I/O5 (io) "Bidirectional Port", 24 VDD (power) "Power", 25 GND (power) "Ground", 26 I/O6 (io) "Bidirectional Port", 27 I/O7 (io) "Bidirectional Port", 28 ~{OE} (in) "Output Enable Input", 29 A13 (in) "Address Input", 30 A14 (in) "Address Input", 31 A15 (in) "Address Input", 32 A16 (in) "Address Input"

## IS63WV1288DBLL-10JI-TR
designator U?
1 M High Speed CMOS SRAM, 128 K x 8, -40 to 85 degC, 32-Pin SOJ (SOJ-32_A); Manufacturer: Integrated Silicon Solution Inc (ISSI); PartNumber: IS63WV1288DBLL-10JI-TR; Organization: 128K x 8; Packing: Tape & Reel; Speed (ns): 10; DatasheetVersion: Rev. B; PackageVersion: Rev. C, 08/2009; PackageReference: SOJ-32; PackageDescription: 32-Pin 300 mil SOJ, Body 20.96 x 7.62 mm, Pitch 1.27 mm; Mounting Technology: Surface Mount; ComponentLink1Description: Manufacturer URL; ComponentLink1URL: http://www.issi.com/US/index.shtml; ComponentLink2Description: Datasheet; ComponentLink2URL: http://www.issi.com/WW/pdf/63-64WV1288DALL-DBLL.pdf; ComponentLink3Description: Package Specification; ComponentLink3URL: http://www.issi.com/WW/pdf/61-64C1024AL.pdf
footprint ISSI-SOJ-32_A_N (SOJ, 32-Leads, Body 21.09x7.75mm, Pitch 1.27mm, IPC Medium Density)
pins: 1 A0 (in) "Address Input", 2 A1 (in) "Address Input", 3 A2 (in) "Address Input", 4 A3 (in) "Address Input", 5 ~{CE} (in) "Chip Enable Input", 6 I/O0 (io) "Bidirectional Port", 7 I/O1 (io) "Bidirectional Port", 8 VDD (power) "Power", 9 GND (power) "Ground", 10 I/O2 (io) "Bidirectional Port", 11 I/O3 (io) "Bidirectional Port", 12 ~{WE} (in) "Write Enable Input", 13 A4 (in) "Address Input", 14 A5 (in) "Address Input", 15 A6 (in) "Address Input", 16 A7 (in) "Address Input", 17 A8 (in) "Address Input", 18 A9 (in) "Address Input", 19 A10 (in) "Address Input", 20 A11 (in) "Address Input", 21 A12 (in) "Address Input", 22 I/O4 (io) "Bidirectional Port", 23 I/O5 (io) "Bidirectional Port", 24 VDD (power) "Power", 25 GND (power) "Ground", 26 I/O6 (io) "Bidirectional Port", 27 I/O7 (io) "Bidirectional Port", 28 ~{OE} (in) "Output Enable Input", 29 A13 (in) "Address Input", 30 A14 (in) "Address Input", 31 A15 (in) "Address Input", 32 A16 (in) "Address Input"

## IS63WV1288DBLL-10JLI
designator U?
1 M High Speed CMOS SRAM, 128 K x 8, -40 to 85 degC, 32-Pin SOJ (SOJ-32_A), Pb-Free; Manufacturer: Integrated Silicon Solution Inc (ISSI); PartNumber: IS63WV1288DBLL-10JLI; Organization: 128K x 8; Packing: Tray / Tube; Speed (ns): 10; DatasheetVersion: Rev. B; PackageVersion: Rev. C, 08/2009; PackageReference: SOJ-32; PackageDescription: 32-Pin 300 mil SOJ, Body 20.96 x 7.62 mm, Pitch 1.27 mm; RoHS: Pb-Free; Mounting Technology: Surface Mount; ComponentLink1Description: Manufacturer URL; ComponentLink1URL: http://www.issi.com/US/index.shtml; ComponentLink2Description: Datasheet; ComponentLink2URL: http://www.issi.com/WW/pdf/63-64WV1288DALL-DBLL.pdf; ComponentLink3Description: Package Specification; ComponentLink3URL: http://www.issi.com/WW/pdf/61-64C1024AL.pdf
footprint ISSI-SOJ-32_A_N (SOJ, 32-Leads, Body 21.09x7.75mm, Pitch 1.27mm, IPC Medium Density)
pins: 1 A0 (in) "Address Input", 2 A1 (in) "Address Input", 3 A2 (in) "Address Input", 4 A3 (in) "Address Input", 5 ~{CE} (in) "Chip Enable Input", 6 I/O0 (io) "Bidirectional Port", 7 I/O1 (io) "Bidirectional Port", 8 VDD (power) "Power", 9 GND (power) "Ground", 10 I/O2 (io) "Bidirectional Port", 11 I/O3 (io) "Bidirectional Port", 12 ~{WE} (in) "Write Enable Input", 13 A4 (in) "Address Input", 14 A5 (in) "Address Input", 15 A6 (in) "Address Input", 16 A7 (in) "Address Input", 17 A8 (in) "Address Input", 18 A9 (in) "Address Input", 19 A10 (in) "Address Input", 20 A11 (in) "Address Input", 21 A12 (in) "Address Input", 22 I/O4 (io) "Bidirectional Port", 23 I/O5 (io) "Bidirectional Port", 24 VDD (power) "Power", 25 GND (power) "Ground", 26 I/O6 (io) "Bidirectional Port", 27 I/O7 (io) "Bidirectional Port", 28 ~{OE} (in) "Output Enable Input", 29 A13 (in) "Address Input", 30 A14 (in) "Address Input", 31 A15 (in) "Address Input", 32 A16 (in) "Address Input"

## IS63WV1288DBLL-10JLI-TR
designator U?
1 M High Speed CMOS SRAM, 128 K x 8, -40 to 85 degC, 32-Pin SOJ (SOJ-32_A), Pb-Free; Manufacturer: Integrated Silicon Solution Inc (ISSI); PartNumber: IS63WV1288DBLL-10JLI-TR; Organization: 128K x 8; Packing: Tape & Reel; Speed (ns): 10; DatasheetVersion: Rev. B; PackageVersion: Rev. C, 08/2009; PackageReference: SOJ-32; PackageDescription: 32-Pin 300 mil SOJ, Body 20.96 x 7.62 mm, Pitch 1.27 mm; RoHS: Pb-Free; Mounting Technology: Surface Mount; ComponentLink1Description: Manufacturer URL; ComponentLink1URL: http://www.issi.com/US/index.shtml; ComponentLink2Description: Datasheet; ComponentLink2URL: http://www.issi.com/WW/pdf/63-64WV1288DALL-DBLL.pdf; ComponentLink3Description: Package Specification; ComponentLink3URL: http://www.issi.com/WW/pdf/61-64C1024AL.pdf
footprint ISSI-SOJ-32_A_N (SOJ, 32-Leads, Body 21.09x7.75mm, Pitch 1.27mm, IPC Medium Density)
pins: 1 A0 (in) "Address Input", 2 A1 (in) "Address Input", 3 A2 (in) "Address Input", 4 A3 (in) "Address Input", 5 ~{CE} (in) "Chip Enable Input", 6 I/O0 (io) "Bidirectional Port", 7 I/O1 (io) "Bidirectional Port", 8 VDD (power) "Power", 9 GND (power) "Ground", 10 I/O2 (io) "Bidirectional Port", 11 I/O3 (io) "Bidirectional Port", 12 ~{WE} (in) "Write Enable Input", 13 A4 (in) "Address Input", 14 A5 (in) "Address Input", 15 A6 (in) "Address Input", 16 A7 (in) "Address Input", 17 A8 (in) "Address Input", 18 A9 (in) "Address Input", 19 A10 (in) "Address Input", 20 A11 (in) "Address Input", 21 A12 (in) "Address Input", 22 I/O4 (io) "Bidirectional Port", 23 I/O5 (io) "Bidirectional Port", 24 VDD (power) "Power", 25 GND (power) "Ground", 26 I/O6 (io) "Bidirectional Port", 27 I/O7 (io) "Bidirectional Port", 28 ~{OE} (in) "Output Enable Input", 29 A13 (in) "Address Input", 30 A14 (in) "Address Input", 31 A15 (in) "Address Input", 32 A16 (in) "Address Input"

## IS63WV1288DBLL-10KLI
designator U?
1 M High Speed CMOS SRAM, 128 K x 8, -40 to 85 degC, 32-Pin SOJ (SOJ-32_B), Pb-Free; Manufacturer: Integrated Silicon Solution Inc (ISSI); PartNumber: IS63WV1288DBLL-10KLI; Organization: 128K x 8; Packing: Tray / Tube; Speed (ns): 10; DatasheetVersion: Rev. B; PackageVersion: Rev. E, 12/2007; PackageReference: SOJ-32; PackageDescription: 32-Pin 400 mil SOJ, Body 20.95 x 10.16 mm, Pitch 1.27 mm; RoHS: Pb-Free; Mounting Technology: Surface Mount; Code_JEDEC: MS-027; ComponentLink1Description: Manufacturer URL; ComponentLink1URL: http://www.issi.com/US/index.shtml; ComponentLink2Description: Datasheet; ComponentLink2URL: http://www.issi.com/WW/pdf/63-64WV1288DALL-DBLL.pdf; ComponentLink3Description: Package Specification; ComponentLink3URL: http://www.issi.com/WW/pdf/61-64C1024AL.pdf
footprint ISSI-SOJ-32_B_N (SOJ, 32-Leads, Body 21.08x10.29mm, Pitch 1.27mm, IPC Medium Density)
pins: 1 A0 (in) "Address Input", 2 A1 (in) "Address Input", 3 A2 (in) "Address Input", 4 A3 (in) "Address Input", 5 ~{CE} (in) "Chip Enable Input", 6 I/O0 (io) "Bidirectional Port", 7 I/O1 (io) "Bidirectional Port", 8 VDD (power) "Power", 9 GND (power) "Ground", 10 I/O2 (io) "Bidirectional Port", 11 I/O3 (io) "Bidirectional Port", 12 ~{WE} (in) "Write Enable Input", 13 A4 (in) "Address Input", 14 A5 (in) "Address Input", 15 A6 (in) "Address Input", 16 A7 (in) "Address Input", 17 A8 (in) "Address Input", 18 A9 (in) "Address Input", 19 A10 (in) "Address Input", 20 A11 (in) "Address Input", 21 A12 (in) "Address Input", 22 I/O4 (io) "Bidirectional Port", 23 I/O5 (io) "Bidirectional Port", 24 VDD (power) "Power", 25 GND (power) "Ground", 26 I/O6 (io) "Bidirectional Port", 27 I/O7 (io) "Bidirectional Port", 28 ~{OE} (in) "Output Enable Input", 29 A13 (in) "Address Input", 30 A14 (in) "Address Input", 31 A15 (in) "Address Input", 32 A16 (in) "Address Input"

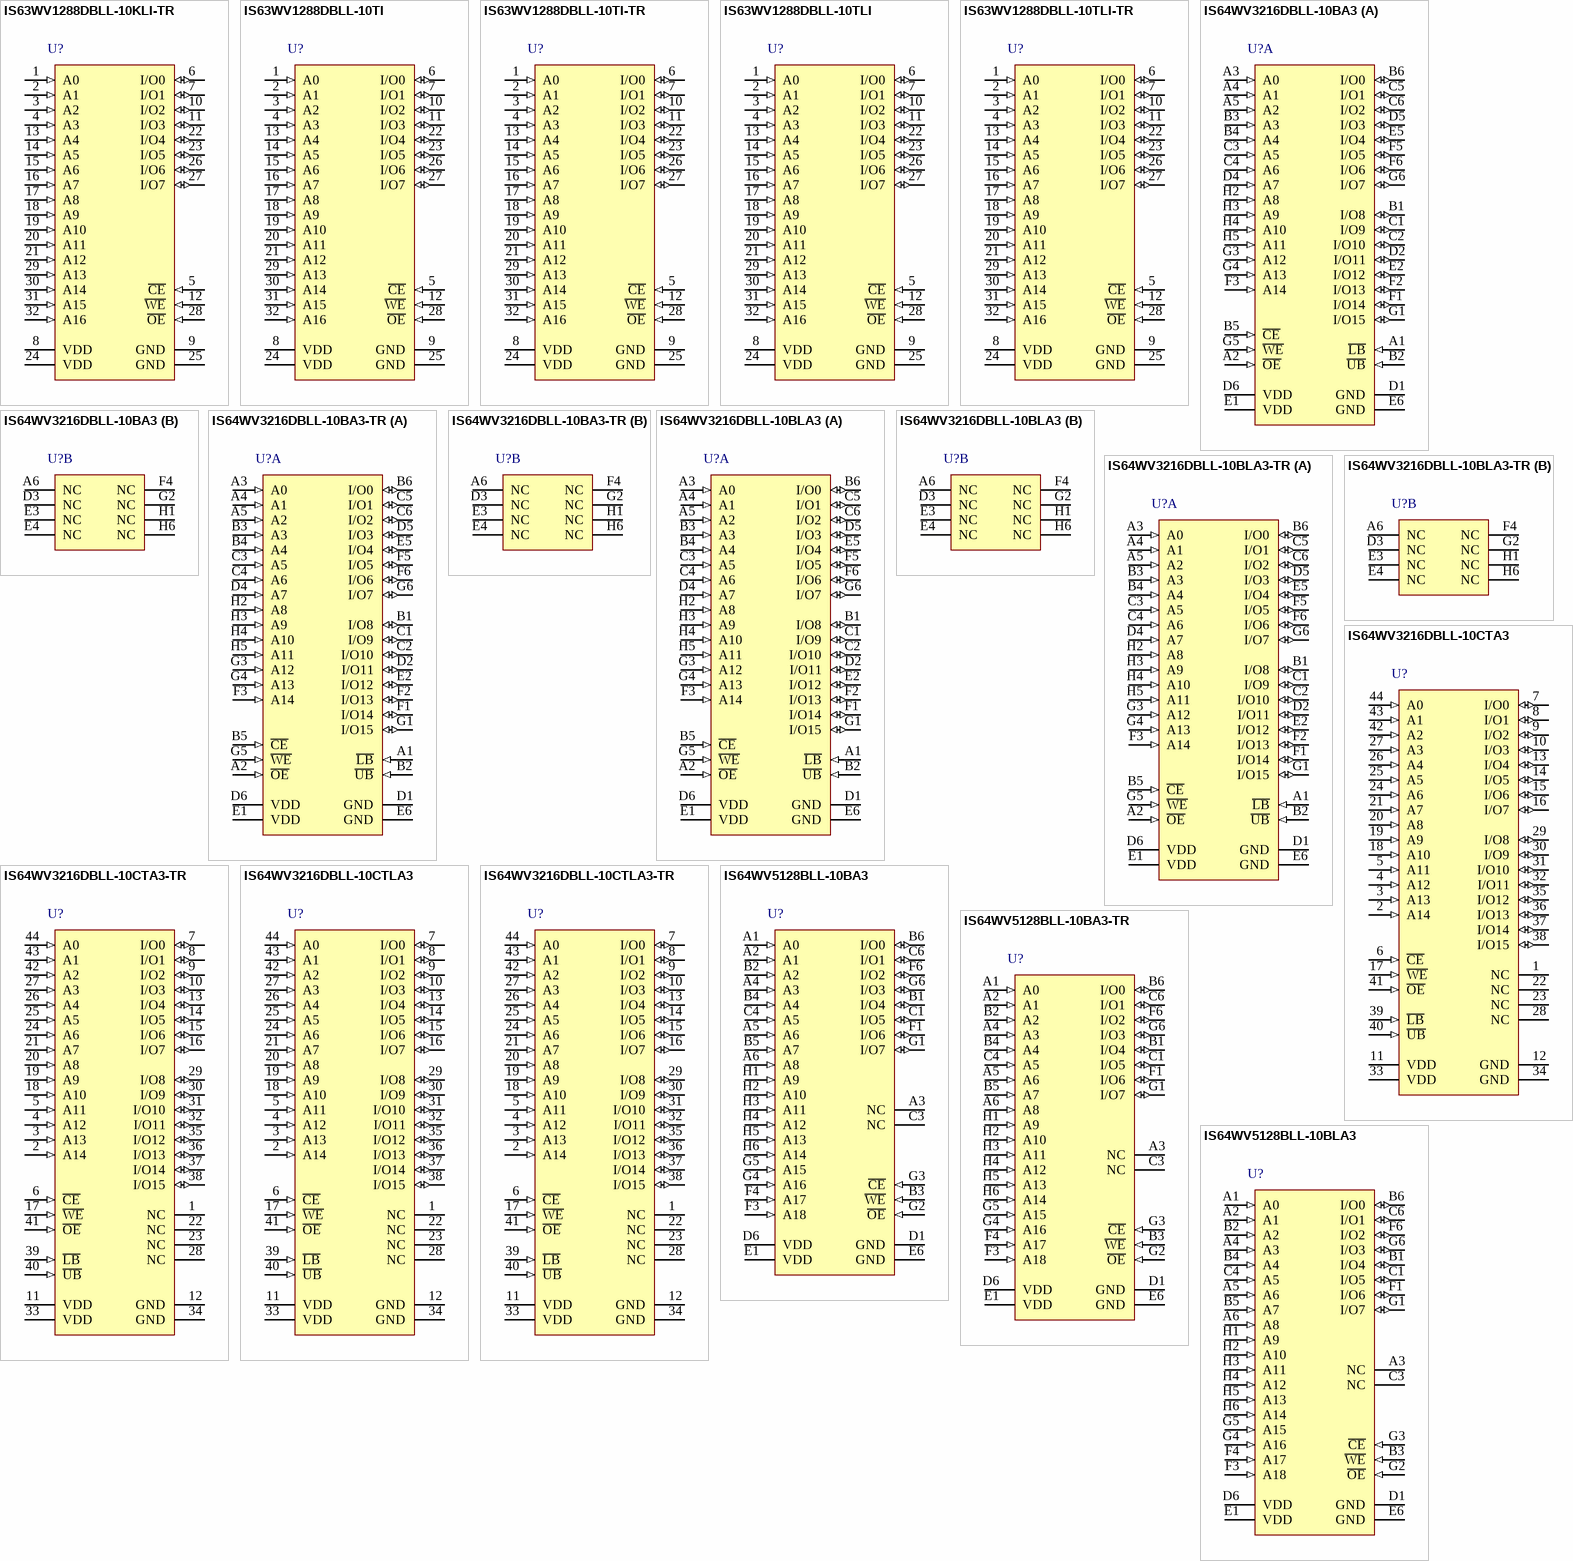
[diagram p25: symbols IS63WV1288DBLL-10KLI-TR to IS64WV5128BLL-10BLA3]

## IS63WV1288DBLL-10KLI-TR
designator U?
1 M High Speed CMOS SRAM, 128 K x 8, -40 to 85 degC, 32-Pin SOJ (SOJ-32_B), Pb-Free; Manufacturer: Integrated Silicon Solution Inc (ISSI); PartNumber: IS63WV1288DBLL-10KLI-TR; Organization: 128K x 8; Packing: Tape & Reel; Speed (ns): 10; DatasheetVersion: Rev. B; PackageVersion: Rev. E, 12/2007; PackageReference: SOJ-32; PackageDescription: 32-Pin 400 mil SOJ, Body 20.95 x 10.16 mm, Pitch 1.27 mm; RoHS: Pb-Free; Mounting Technology: Surface Mount; Code_JEDEC: MS-027; ComponentLink1Description: Manufacturer URL; ComponentLink1URL: http://www.issi.com/US/index.shtml; ComponentLink2Description: Datasheet; ComponentLink2URL: http://www.issi.com/WW/pdf/63-64WV1288DALL-DBLL.pdf; ComponentLink3Description: Package Specification; ComponentLink3URL: http://www.issi.com/WW/pdf/61-64C1024AL.pdf
footprint ISSI-SOJ-32_B_N (SOJ, 32-Leads, Body 21.08x10.29mm, Pitch 1.27mm, IPC Medium Density)
pins: 1 A0 (in) "Address Input", 2 A1 (in) "Address Input", 3 A2 (in) "Address Input", 4 A3 (in) "Address Input", 5 ~{CE} (in) "Chip Enable Input", 6 I/O0 (io) "Bidirectional Port", 7 I/O1 (io) "Bidirectional Port", 8 VDD (power) "Power", 9 GND (power) "Ground", 10 I/O2 (io) "Bidirectional Port", 11 I/O3 (io) "Bidirectional Port", 12 ~{WE} (in) "Write Enable Input", 13 A4 (in) "Address Input", 14 A5 (in) "Address Input", 15 A6 (in) "Address Input", 16 A7 (in) "Address Input", 17 A8 (in) "Address Input", 18 A9 (in) "Address Input", 19 A10 (in) "Address Input", 20 A11 (in) "Address Input", 21 A12 (in) "Address Input", 22 I/O4 (io) "Bidirectional Port", 23 I/O5 (io) "Bidirectional Port", 24 VDD (power) "Power", 25 GND (power) "Ground", 26 I/O6 (io) "Bidirectional Port", 27 I/O7 (io) "Bidirectional Port", 28 ~{OE} (in) "Output Enable Input", 29 A13 (in) "Address Input", 30 A14 (in) "Address Input", 31 A15 (in) "Address Input", 32 A16 (in) "Address Input"

## IS63WV1288DBLL-10TI
designator U?
1 M High Speed CMOS SRAM, 128 K x 8, -40 to 85 degC, 32-Pin SOP (TSOP-2-32); Manufacturer: Integrated Silicon Solution Inc (ISSI); PartNumber: IS63WV1288DBLL-10TI; Organization: 128K x 8; Packing: Tray / Tube; Speed (ns): 10; DatasheetVersion: Rev. B; PackageVersion: Rev. E, 06/2009; PackageReference: TSOP-2-32; PackageDescription: 32-Pin 400 mil TSOP-2, Body 20.95 x 10.16 mm, Pitch 1.27 mm; Mounting Technology: Surface Mount; ComponentLink1Description: Manufacturer URL; ComponentLink1URL: http://www.issi.com/US/index.shtml; ComponentLink2Description: Datasheet; ComponentLink2URL: http://www.issi.com/WW/pdf/63-64WV1288DALL-DBLL.pdf; ComponentLink3Description: Package Specification; ComponentLink3URL: http://www.issi.com/WW/pdf/61-64WV1288EEBLL.pdf
footprint ISSI-TSOP-2-32_N (SOP, 32-Leads, Body 21.1x10.3mm, Pitch 1.27mm, IPC Medium Density)
pins: 1 A0 (in) "Address Inputs", 2 A1 (in) "Address Inputs", 3 A2 (in) "Address Inputs", 4 A3 (in) "Address Inputs", 5 ~{CE} (in) "Chip Enable Input", 6 I/O0 (io) "Bidirectional Ports", 7 I/O1 (io) "Bidirectional Ports", 8 VDD (power) "Power", 9 GND (power) "Ground", 10 I/O2 (io) "Bidirectional Ports", 11 I/O3 (io) "Bidirectional Ports", 12 ~{WE} (in) "Write Enable Input", 13 A4 (in) "Address Inputs", 14 A5 (in) "Address Inputs", 15 A6 (in) "Address Inputs", 16 A7 (in) "Address Inputs", 17 A8 (in) "Address Inputs", 18 A9 (in) "Address Inputs", 19 A10 (in) "Address Inputs", 20 A11 (in) "Address Inputs", 21 A12 (in) "Address Inputs", 22 I/O4 (io) "Bidirectional Ports", 23 I/O5 (io) "Bidirectional Ports", 24 VDD (power) "Power", 25 GND (power) "Ground", 26 I/O6 (io) "Bidirectional Ports", 27 I/O7 (io) "Bidirectional Ports", 28 ~{OE} (in) "Output Enable Input", 29 A13 (in) "Address Inputs", 30 A14 (in) "Address Inputs", 31 A15 (in) "Address Inputs", 32 A16 (in) "Address Inputs"

## IS63WV1288DBLL-10TI-TR
designator U?
1 M High Speed CMOS SRAM, 128 K x 8, -40 to 85 degC, 32-Pin SOP (TSOP-2-32); Manufacturer: Integrated Silicon Solution Inc (ISSI); PartNumber: IS63WV1288DBLL-10TI-TR; Organization: 128K x 8; Packing: Tape & Reel; Speed (ns): 10; DatasheetVersion: Rev. B; PackageVersion: Rev. E, 06/2009; PackageReference: TSOP-2-32; PackageDescription: 32-Pin 400 mil TSOP-2, Body 20.95 x 10.16 mm, Pitch 1.27 mm; Mounting Technology: Surface Mount; ComponentLink1Description: Manufacturer URL; ComponentLink1URL: http://www.issi.com/US/index.shtml; ComponentLink2Description: Datasheet; ComponentLink2URL: http://www.issi.com/WW/pdf/63-64WV1288DALL-DBLL.pdf; ComponentLink3Description: Package Specification; ComponentLink3URL: http://www.issi.com/WW/pdf/61-64WV1288EEBLL.pdf
footprint ISSI-TSOP-2-32_N (SOP, 32-Leads, Body 21.1x10.3mm, Pitch 1.27mm, IPC Medium Density)
pins: 1 A0 (in) "Address Inputs", 2 A1 (in) "Address Inputs", 3 A2 (in) "Address Inputs", 4 A3 (in) "Address Inputs", 5 ~{CE} (in) "Chip Enable Input", 6 I/O0 (io) "Bidirectional Ports", 7 I/O1 (io) "Bidirectional Ports", 8 VDD (power) "Power", 9 GND (power) "Ground", 10 I/O2 (io) "Bidirectional Ports", 11 I/O3 (io) "Bidirectional Ports", 12 ~{WE} (in) "Write Enable Input", 13 A4 (in) "Address Inputs", 14 A5 (in) "Address Inputs", 15 A6 (in) "Address Inputs", 16 A7 (in) "Address Inputs", 17 A8 (in) "Address Inputs", 18 A9 (in) "Address Inputs", 19 A10 (in) "Address Inputs", 20 A11 (in) "Address Inputs", 21 A12 (in) "Address Inputs", 22 I/O4 (io) "Bidirectional Ports", 23 I/O5 (io) "Bidirectional Ports", 24 VDD (power) "Power", 25 GND (power) "Ground", 26 I/O6 (io) "Bidirectional Ports", 27 I/O7 (io) "Bidirectional Ports", 28 ~{OE} (in) "Output Enable Input", 29 A13 (in) "Address Inputs", 30 A14 (in) "Address Inputs", 31 A15 (in) "Address Inputs", 32 A16 (in) "Address Inputs"

## IS63WV1288DBLL-10TLI
designator U?
1 M High Speed CMOS SRAM, 128 K x 8, -40 to 85 degC, 32-Pin SOP (TSOP-2-32), Pb-Free; Manufacturer: Integrated Silicon Solution Inc (ISSI); PartNumber: IS63WV1288DBLL-10TLI; Organization: 128K x 8; Packing: Tray / Tube; Speed (ns): 10; DatasheetVersion: Rev. B; PackageVersion: Rev. E, 06/2009; PackageReference: TSOP-2-32; PackageDescription: 32-Pin 400 mil TSOP-2, Body 20.95 x 10.16 mm, Pitch 1.27 mm; Supplier 1: Mouser; Supplier Part Number 1: 870-63WV1288DB10TLI; RoHS: Pb-Free; Mounting Technology: Surface Mount; ComponentLink1Description: Manufacturer URL; ComponentLink1URL: http://www.issi.com/US/index.shtml; ComponentLink2Description: Datasheet; ComponentLink2URL: http://www.issi.com/WW/pdf/63-64WV1288DALL-DBLL.pdf; ComponentLink3Description: Package Specification; ComponentLink3URL: http://www.issi.com/WW/pdf/61-64WV1288EEBLL.pdf
footprint ISSI-TSOP-2-32_N (SOP, 32-Leads, Body 21.1x10.3mm, Pitch 1.27mm, IPC Medium Density)
pins: 1 A0 (in) "Address Inputs", 2 A1 (in) "Address Inputs", 3 A2 (in) "Address Inputs", 4 A3 (in) "Address Inputs", 5 ~{CE} (in) "Chip Enable Input", 6 I/O0 (io) "Bidirectional Ports", 7 I/O1 (io) "Bidirectional Ports", 8 VDD (power) "Power", 9 GND (power) "Ground", 10 I/O2 (io) "Bidirectional Ports", 11 I/O3 (io) "Bidirectional Ports", 12 ~{WE} (in) "Write Enable Input", 13 A4 (in) "Address Inputs", 14 A5 (in) "Address Inputs", 15 A6 (in) "Address Inputs", 16 A7 (in) "Address Inputs", 17 A8 (in) "Address Inputs", 18 A9 (in) "Address Inputs", 19 A10 (in) "Address Inputs", 20 A11 (in) "Address Inputs", 21 A12 (in) "Address Inputs", 22 I/O4 (io) "Bidirectional Ports", 23 I/O5 (io) "Bidirectional Ports", 24 VDD (power) "Power", 25 GND (power) "Ground", 26 I/O6 (io) "Bidirectional Ports", 27 I/O7 (io) "Bidirectional Ports", 28 ~{OE} (in) "Output Enable Input", 29 A13 (in) "Address Inputs", 30 A14 (in) "Address Inputs", 31 A15 (in) "Address Inputs", 32 A16 (in) "Address Inputs"

## IS63WV1288DBLL-10TLI-TR
designator U?
1 M High Speed CMOS SRAM, 128 K x 8, -40 to 85 degC, 32-Pin SOP (TSOP-2-32), Pb-Free; Manufacturer: Integrated Silicon Solution Inc (ISSI); PartNumber: IS63WV1288DBLL-10TLI-TR; Organization: 128K x 8; Packing: Tape & Reel; Speed (ns): 10; DatasheetVersion: Rev. B; PackageVersion: Rev. E, 06/2009; PackageReference: TSOP-2-32; PackageDescription: 32-Pin 400 mil TSOP-2, Body 20.95 x 10.16 mm, Pitch 1.27 mm; Supplier 1: Newark; Supplier Part Number 1: 34R4130; Supplier 2: Mouser; Supplier Part Number 2: 870-63WV1288DB10TLIT; RoHS: Pb-Free; Mounting Technology: Surface Mount; ComponentLink1Description: Manufacturer URL; ComponentLink1URL: http://www.issi.com/US/index.shtml; ComponentLink2Description: Datasheet; ComponentLink2URL: http://www.issi.com/WW/pdf/63-64WV1288DALL-DBLL.pdf; ComponentLink3Description: Package Specification; ComponentLink3URL: http://www.issi.com/WW/pdf/61-64WV1288EEBLL.pdf
footprint ISSI-TSOP-2-32_N (SOP, 32-Leads, Body 21.1x10.3mm, Pitch 1.27mm, IPC Medium Density)
pins: 1 A0 (in) "Address Inputs", 2 A1 (in) "Address Inputs", 3 A2 (in) "Address Inputs", 4 A3 (in) "Address Inputs", 5 ~{CE} (in) "Chip Enable Input", 6 I/O0 (io) "Bidirectional Ports", 7 I/O1 (io) "Bidirectional Ports", 8 VDD (power) "Power", 9 GND (power) "Ground", 10 I/O2 (io) "Bidirectional Ports", 11 I/O3 (io) "Bidirectional Ports", 12 ~{WE} (in) "Write Enable Input", 13 A4 (in) "Address Inputs", 14 A5 (in) "Address Inputs", 15 A6 (in) "Address Inputs", 16 A7 (in) "Address Inputs", 17 A8 (in) "Address Inputs", 18 A9 (in) "Address Inputs", 19 A10 (in) "Address Inputs", 20 A11 (in) "Address Inputs", 21 A12 (in) "Address Inputs", 22 I/O4 (io) "Bidirectional Ports", 23 I/O5 (io) "Bidirectional Ports", 24 VDD (power) "Power", 25 GND (power) "Ground", 26 I/O6 (io) "Bidirectional Ports", 27 I/O7 (io) "Bidirectional Ports", 28 ~{OE} (in) "Output Enable Input", 29 A13 (in) "Address Inputs", 30 A14 (in) "Address Inputs", 31 A15 (in) "Address Inputs", 32 A16 (in) "Address Inputs"

## IS64WV3216DBLL-10BA3
designator U?
512 K High Speed Asynchronous CMOS SRAM, 32 K x 16, -40 to 125 degC, 48-Pin BGA (TF-BGA-48); Manufacturer: Integrated Silicon Solution Inc (ISSI); PartNumber: IS64WV3216DBLL-10BA3; Density: 512K; Organization: 32K x 16; Packing: Tray / Tube; Speed (ns): 10; DatasheetVersion: Rev. A; PackageVersion: Rev. C, 08/2008; PackageReference: TF-BGA-48; PackageDescription: 48-Pin 6 x 8 mm TF-BGA, Pitch 0.75 mm; Mounting Technology: Surface Mount; Code_JEDEC: MO-207; ComponentLink1Description: Manufacturer URL; ComponentLink1URL: http://www.issi.com/US/index.shtml; ComponentLink2Description: Datasheet; ComponentLink2URL: http://www.issi.com/WW/pdf/61-64WV3216DAxx-DBxx.pdf; ComponentLink3Description: Package Specification; ComponentLink3URL: http://www.issi.com/WW/pdf/61-64WV25616.pdf
footprint ISSI-TF-BGA-48-6000X8000DE (BGA, 48-Balls, Body 8x6mm, Pitch 0.75mm)
part A pins: A1 ~{LB} (in) "Lower-byte Control(I/O0-I/O7)", A2 ~{OE} (in) "Output Enable Input", A3 A0 (in) "Address Input", A4 A1 (in) "Address Input", A5 A2 (in) "Address Input", B1 I/O8 (io) "Data Input/Output", B2 ~{UB} (in) "Upper-byte Control(I/O8-I/O15)", B3 A3 (in) "Address Input", B4 A4 (in) "Address Input", B5 ~{CE} (in) "Chip Enable Input", B6 I/O0 (io) "Data Input/Output", C1 I/O9 (io) "Data Input/Output", C2 I/O10 (io) "Data Input/Output", C3 A5 (in) "Address Input", C4 A6 (in) "Address Input", C5 I/O1 (io) "Data Input/Output", C6 I/O2 (io) "Data Input/Output", D1 GND (power) "Ground", D2 I/O11 (io) "Data Input/Output", D4 A7 (in) "Address Input", D5 I/O3 (io) "Data Input/Output", D6 VDD (power) "Power", E1 VDD (power) "Power", E2 I/O12 (io) "Data Input/Output", E5 I/O4 (io) "Data Input/Output", E6 GND (power) "Ground", F1 I/O14 (io) "Data Input/Output", F2 I/O13 (io) "Data Input/Output", F3 A14 (in) "Address Input", F5 I/O5 (io) "Data Input/Output", F6 I/O6 (io) "Data Input/Output", G1 I/O15 (io) "Data Input/Output", G3 A12 (in) "Address Input", G4 A13 (in) "Address Input", G5 ~{WE} (in) "Write Enable Input", G6 I/O7 (io) "Data Input/Output", H2 A8 (in) "Address Input", H3 A9 (in) "Address Input", H4 A10 (in) "Address Input", H5 A11 (in) "Address Input"
part B pins: A6 NC "No Connection", D3 NC "No Connection", E3 NC "No Connection", E4 NC "No Connection", F4 NC "No Connection", G2 NC "No Connection", H1 NC "No Connection", H6 NC "No Connection"